# Altium footprint library FUNCTION GENERATOR.PcbLib: 4 footprints
Each footprint in its own frame and in the unit in brackets; x right, y up, seen from the top. Pads: shape width x height; smd on the part's side, far side on the other; paste and mask are expansions set on the pad; w line width, h text height; cw(c..) or ccw(c..) is an arc to the next point about the centre after c.
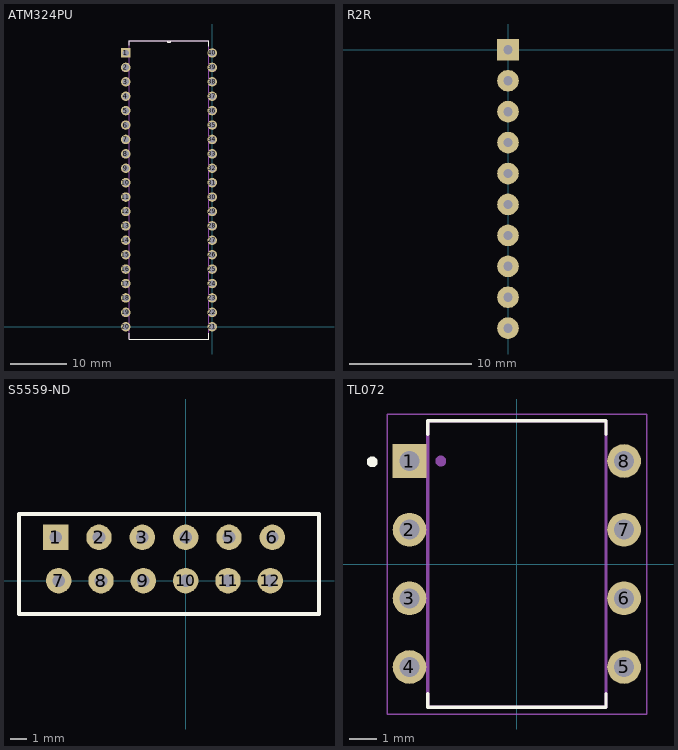
[diagram p0: the footprints below, top view; thin cyan lines are the x and y axes]

## ATM324PU [mil]
pads (40):
  rect 66x66 hole 44: 1(-600,1900)
  round 66 hole 44: 2(-600,1800) 3(-600,1700) 4(-600,1600) 5(-600,1500) 6(-600,1400) 7(-600,1300) 8(-600,1200) 9(-600,1100) 10(-600,1000) 11(-600,900) 12(-600,800) 13(-600,700) 14(-600,600) 15(-600,500) 16(-600,400) 17(-600,300) 18(-600,200) 19(-600,100) 20(-600,0) 21(0,0) 22(0,100) 23(0,200) 24(0,300) 25(0,400) 26(0,500) 27(0,600) 28(0,700) 29(0,800) 30(0,900) 31(0,1000) 32(0,1100) 33(0,1200) 34(0,1300) 35(0,1400) 36(0,1500) 37(0,1600) 38(0,1700) 39(0,1800) 40(0,1900)
Top Overlay:
  lines w6: -575,-45 -575,-85 -25,-85 -25,-45 ; -575,1952 -575,1985 -312,1985 ; -25,1945 -25,1985 -288,1985 ; -312,1985 ccw(c-300,1985) -288,1985 ; -312,1985 -288,1985
Mechanical 1:
  drawing of 167 lines, arcs and shapes, not listed

## R2R [mil]
pads (10):
  rect 70x70 hole 30: PIN_1(0,0)
  round 70 hole 30: PIN_2(0,-100) PIN_3(0,-200) PIN_4(0,-300) PIN_5(0,-400) PIN_6(0,-500) PIN_7(0,-600) PIN_8(0,-700) PIN_9(0,-800) PIN_10(0,-900)

## S5559-ND [mil]
pads (12):
  rect 60x60 hole 30: 1(-307.09,102.36)
  round 60 hole 30: 2(-204.72,102.36) 3(-102.36,102.36) 4(0,102.36) 5(102.36,102.36) 6(204.72,102.36) 7(-300,0) 8(-200,0) 9(-100,0) 10(0,0) 11(100,0) 12(200,0)
Top Overlay:
  lines w10: -393.7,-78.74 -393.7,157.48 314.96,157.48 314.96,-78.74 -393.7,-78.74

## TL072 [mm]
pads (8):
  rect 1.248x1.248 hole 0.74: 1(-3.97,3.81)
  round 1.248 hole 0.74: 2(-3.97,1.27) 3(-3.97,-1.27) 4(-3.97,-3.81) 5(3.97,-3.81) 6(3.97,-1.27) 7(3.97,1.27) 8(3.97,3.81)
Top Overlay:
  circle w0.2: c-5.35,3.78 r0.1
  lines w0.127: -3.3,-4.8 -3.3,-5.3 3.3,-5.3 3.3,-4.8 ; -3.3,4.8 -3.3,5.3 3.3,5.3 3.3,4.8
Mechanical 1:
  circle w0.2: c-2.81,3.81 r0.1
  lines w0.127: -3.3,-5.3 3.3,-5.3 3.3,5.3 -3.3,5.3 -3.3,-5.3
Mechanical 4:
  lines w0.05: -4.8,-5.55 4.8,-5.55 4.8,5.55 -4.8,5.55 -4.8,-5.55